# Altium schematic symbol library DIODE,Schottky,100V,1A,SMD.Schlib: 1 symbol
Pins are listed as number, name and electrical type; pins without a type are passive.

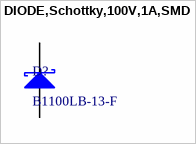
[diagram p0: symbol DIODE,Schottky,100V,1A,SMD]

## DIODE,Schottky,100V,1A,SMD
designator D?, comment B1100LB-13-F
Diode Schottky 100V 1A Surface Mount SMB
pins: 1 K, 2 A